# EAGLE library part ARDUINO_NANO_NOI2C_SMOL (library ElcPartsLibrary)
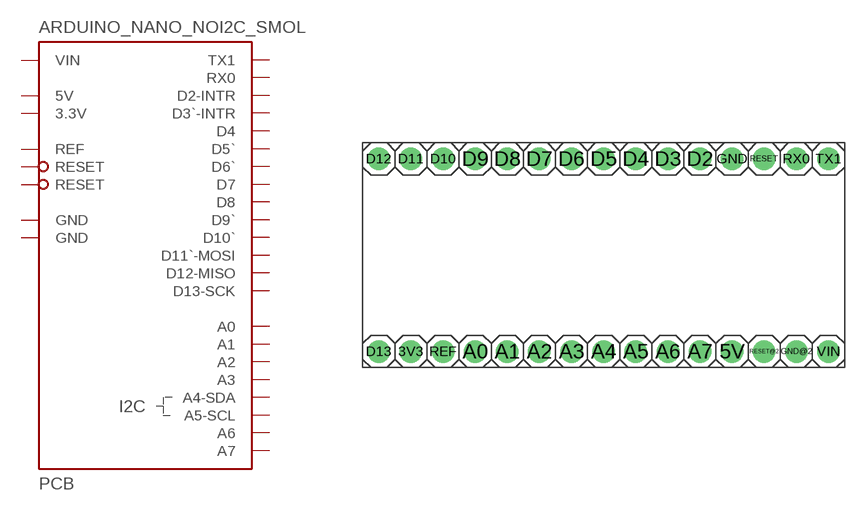
[diagram p12: symbol with the pads of ARDUINO_NANO_SMOL; footprint ARDUINO_NANO_SMOL]

Designator prefix PCB

## ARDUINO_NANO_NOI2C_SMOLSMOL  [ARDUINO_NANO_SMOL]
3V3  3.3V
5V  5V
A0  A0
A1  A1
A2  A2
A3  A3
A4  A4-SDA
A5  A5-SCL
A6  A6
A7  A7
D2  D2-INTR
D3  D3`-INTR
D4  D4
D5  D5`
D6  D6`
D7  D7
D8  D8
D9  D9`
D10  D10`
D11  D11`-MOSI
D12  D12-MISO
D13  D13-SCK
GND  GND
GND@2  GND
REF  REF
RESET  RESET
RESET@2  RESET
RX0  RX0
TX1  TX1
VIN  VIN

## Footprint ARDUINO_NANO_SMOL (pad centres in mm)
Footprint for representing an Arduino Nano board in an EAGLE schematic
drill 1.016 pad 1.778: 3V3 -13.97,-7.62; 5V 11.43,-7.62; A0 -8.89,-7.62; A1 -6.35,-7.62; A2 -3.81,-7.62; A3 -1.27,-7.62; A4 1.27,-7.62; A5 3.81,-7.62; A6 6.35,-7.62; A7 8.89,-7.62; D2 8.89,7.62; D3 6.35,7.62; D4 3.81,7.62; D5 1.27,7.62; D6 -1.27,7.62; D7 -3.81,7.62; D8 -6.35,7.62; D9 -8.89,7.62; D10 -11.43,7.62; D11 -13.97,7.62; D12 -16.51,7.62; D13 -16.51,-7.62; GND 11.43,7.62; GND@2 16.51,-7.62; REF -11.43,-7.62; RESET 13.97,7.62; RESET@2 13.97,-7.62; RX0 16.51,7.62; TX1 19.05,7.62; VIN 19.05,-7.62